# EAGLE library part 74X244 (library bmowdisk)
MEMORY
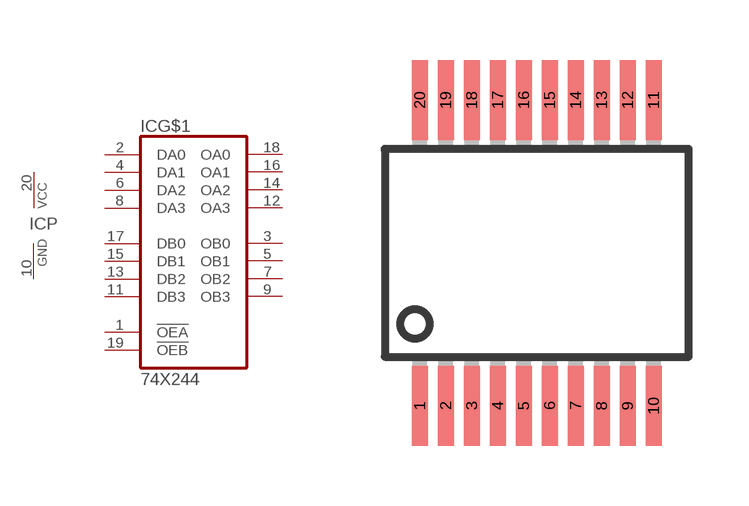
[diagram p0: symbol with the pads of SSOP20; footprint SSOP20]

Designator prefix IC; gates G$1=244 P=VCCGND

## 74X244  [SSOP20]
1  G$1:!OEA  in
2  G$1:DA0  in
3  G$1:OB0  out
4  G$1:DA1  in
5  G$1:OB1  out
6  G$1:DA2  in
7  G$1:OB2  out
8  G$1:DA3  in
9  G$1:OB3  out
10  P:GND  pwr
11  G$1:DB3  in
12  G$1:OA3  out
13  G$1:DB2  in
14  G$1:OA2  out
15  G$1:DB1  in
16  G$1:OA1  out
17  G$1:DB0  in
18  G$1:OA0  out
19  G$1:!OEB  in
20  P:VCC  pwr

## Footprint SSOP20 (pad centres in mm)
Shrink Small Outline Package package type SS
smd 0.4 x 2: 1 -2.925,-3.825; 2 -2.275,-3.825; 3 -1.625,-3.825; 4 -0.975,-3.825; 5 -0.325,-3.825; 6 0.325,-3.825; 7 0.975,-3.825; 8 1.625,-3.825; 9 2.275,-3.825; 10 2.925,-3.825; 11 2.925,3.825; 12 2.275,3.825; 13 1.625,3.825; 14 0.975,3.825; 15 0.325,3.825; 16 -0.325,3.825; 17 -0.975,3.825; 18 -1.625,3.825; 19 -2.275,3.825; 20 -2.925,3.825